# EAGLE library part SL6270 (library SL6270)
SL6270 Microphone Preamplifier and VOGAD GEC-Plessey
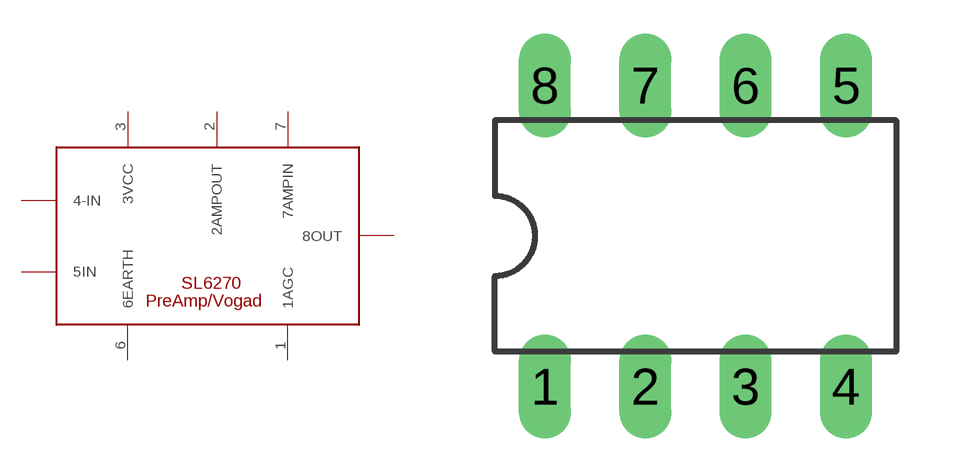
[diagram p0: symbol with the pads of DIL08; footprint DIL08]

Designator prefix -

## SL6270  [DIL08]
1  1AGC  pas
2  2AMPOUT  pas
3  3VCC  pwr
4  4-IN  in
5  5IN  in
6  6EARTH  pwr
7  7AMPIN  pas
8  8OUT  out

## Footprint DIL08 (pad centres in mm)
drill 0.813 long: 1 -3.81,-3.81; 2 -1.27,-3.81; 3 1.27,-3.81; 4 3.81,-3.81; 5 3.81,3.81; 6 1.27,3.81; 7 -1.27,3.81; 8 -3.81,3.81